# Altium footprint library HDR_1X3_RA.PcbLib: 1 footprints
Each footprint in its own frame and in the unit in brackets; x right, y up, seen from the top. Pads: shape width x height; smd on the part's side, far side on the other; paste and mask are expansions set on the pad; w line width, h text height; cw(c..) or ccw(c..) is an arc to the next point about the centre after c.
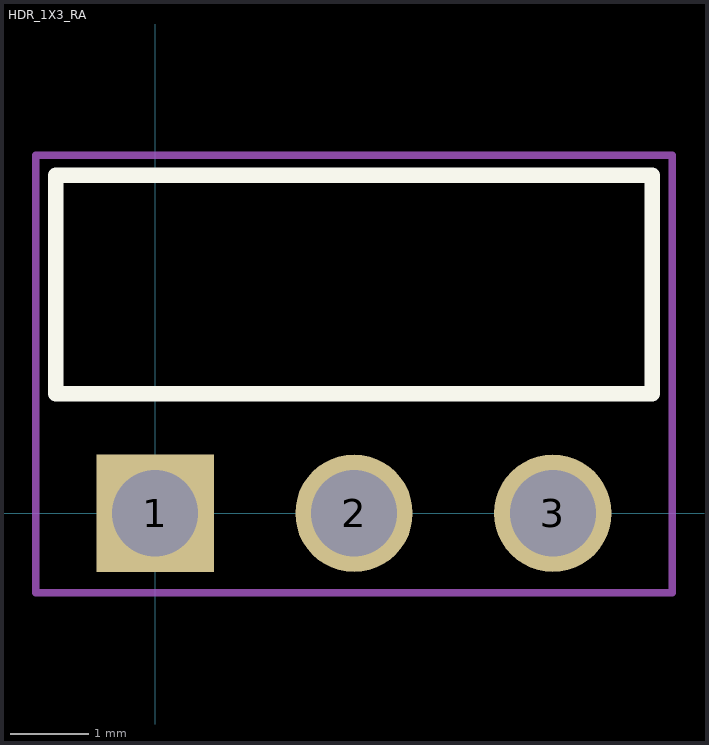
[diagram p0: the footprint, top view; thin cyan lines are the x and y axes]

## HDR_1X3_RA [mm]
pads (3):
  rect 1.5x1.5 hole 1.1: 1(0,0)
  round 1.5 hole 1.1: 2(2.54,0) 3(5.08,0)
Top Overlay:
  lines w0.2: -1.27,1.524 6.35,1.524 6.35,4.318 -1.27,4.318 -1.27,1.524
Mechanical 15:
  lines w0.1: -1.524,-1.016 6.604,-1.016 6.604,4.572 -1.524,4.572 -1.524,-0.762 -1.524,-1.016
3D body: height 2.55, standoff -2.99, extent -1.27,-0.296 6.35,10.064